# EAGLE library part USB (library _USB_sockets)
USB MINI SOCKET miniUSB type B
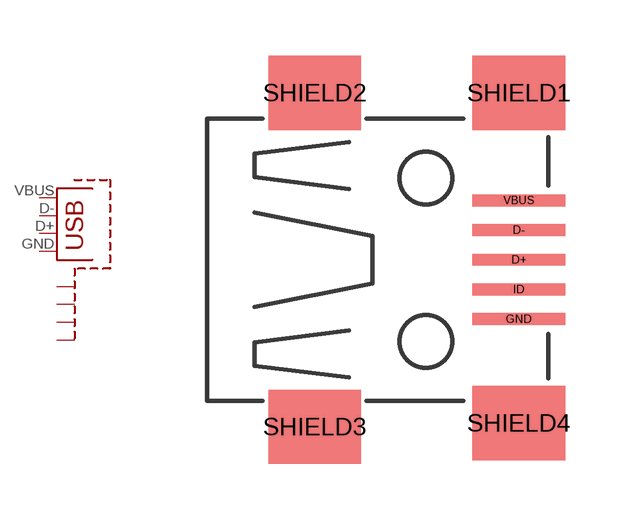
[diagram p0: symbol with the pads of USB-MB-S; footprint USB-MB-S]

Designator prefix X

## USB-MB-S  [USB-MB-S]
D+  D+
D-  D-
GND  GND
SHIELD1  SHIELD1
SHIELD2  SHIELD2
SHIELD3  SHIELD3
SHIELD4  SHIELD4
VBUS  VBUS

## Footprint USB-MB-S (pad centres in mm)
USB Series Mini-B Surface Mounted
smd 2.5 x 0.32: D+ 2.5,0; D- 2.5,0.8; GND 2.5,-1.6; ID 2.5,-0.8; VBUS 2.5,1.6
smd 2.5 x 2: SHIELD1 2.5,4.5; SHIELD2 -3,4.5; SHIELD3 -3,-4.5; SHIELD4 2.5,-4.4